# EAGLE library part BISTABIL-2-COILS (library farnell-coax-bistabil)
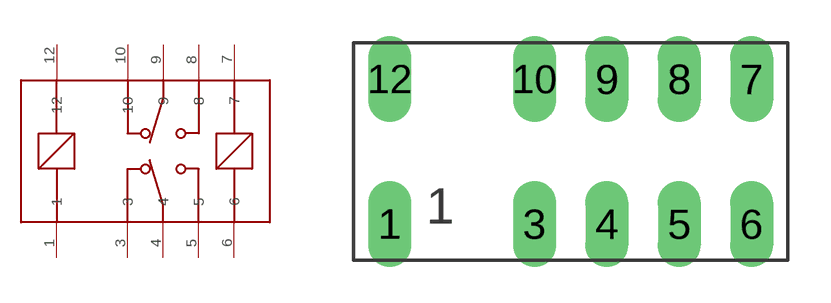
[diagram p0: symbol with the pads of BISTABILE-2-COILS; footprint BISTABILE-2-COILS]

Designator prefix -

## BISTABIL-2-COILS  [BISTABILE-2-COILS]
1  1
3  3
4  4
5  5
6  6
7  7
8  8
9  9
10  10
12  12

## Footprint BISTABILE-2-COILS (pad centres in mm)
drill 1 long: 1 -7.62,-2.54; 3 -2.54,-2.54; 4 0,-2.54; 5 2.54,-2.54; 6 5.08,-2.54; 7 5.08,2.54; 8 2.54,2.54; 9 0,2.54; 10 -2.54,2.54; 12 -7.62,2.54